# Altium schematic symbol library C1812W104KDRACTU.SchLib: 1 symbol
Pins are listed as number, name and electrical type; pins without a type are passive.

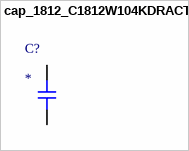
[diagram p0: symbol cap_1812_C1812W104KDRACTU]

## cap_1812_C1812W104KDRACTU
designator C?
Capacitor  1812; MF: Kemet; MP: C1812W104KDRACTU; SnapEDA_Link: https://www.snapeda.com/parts/C1812W104KDRACTU/Kemet/view-part/?ref=snap; Package: 4532 KEMET; Value: *; Check_prices: https://www.snapeda.com/parts/C1812W104KDRACTU/Kemet/view-part/?ref=eda
footprint CAPC4532X185N
pins: 1 A, 2 B